# Altium integrated library WE-HCI_rev15b.intlib: 126 symbols (part 1 of 2)
Pins are listed as number, name and electrical type; pins without a type are passive.

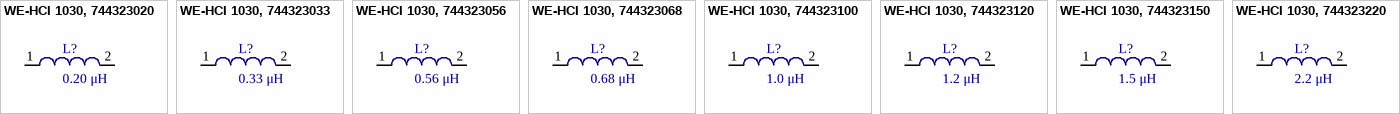
[diagram p0: symbols WE-HCI 1030, 744323020 to WE-HCI 1030, 744323220]

## WE-HCI 1030, 744323020
designator L?, comment 0.20 μH
WE-HCI SMD Flat Wire High Current Inductor, Inductance = 0.20 μH; partNo: 744323020; Manufacturer: Wurth Elektronik; Inductance: 0.20 μH; ComponentLink1Description: Manufacturer; ComponentLink1URL: http://www.we-online.de; Created by: Baojun Chen; Created Date: Nov.2015; ComponentLink2Description: Datasheet; ComponentLink2URL: http://katalog.we-online.de/pbs/datasheet/744323020.pdf
footprint WE-HCI 1030
pins: 1, 2

## WE-HCI 1030, 744323033
designator L?, comment 0.33 μH
WE-HCI SMD Flat Wire High Current Inductor, Inductance = 0.33 μH; partNo: 744323033; Manufacturer: Wurth Elektronik; Inductance: 0.33 μH; ComponentLink1Description: Manufacturer; ComponentLink1URL: http://www.we-online.de; Created by: Baojun Chen; Created Date: Nov.2015; ComponentLink2Description: Datasheet; ComponentLink2URL: http://katalog.we-online.de/pbs/datasheet/744323033.pdf
footprint WE-HCI 1030
pins: 1, 2

## WE-HCI 1030, 744323056
designator L?, comment 0.56 μH
WE-HCI SMD Flat Wire High Current Inductor, Inductance = 0.56 μH; partNo: 744323056; Manufacturer: Wurth Elektronik; Inductance: 0.56 μH; ComponentLink1Description: Manufacturer; ComponentLink1URL: http://www.we-online.de; Created by: Baojun Chen; Created Date: Nov.2015; ComponentLink2Description: Datasheet; ComponentLink2URL: http://katalog.we-online.de/pbs/datasheet/744323056.pdf
footprint WE-HCI 1030
pins: 1, 2

## WE-HCI 1030, 744323068
designator L?, comment 0.68 μH
WE-HCI SMD Flat Wire High Current Inductor, Inductance = 0.68 μH; partNo: 744323068; Manufacturer: Wurth Elektronik; Inductance: 0.68 μH; ComponentLink1Description: Manufacturer; ComponentLink1URL: http://www.we-online.de; Created by: Baojun Chen; Created Date: Nov.2015; ComponentLink2Description: Datasheet; ComponentLink2URL: http://katalog.we-online.de/pbs/datasheet/744323068.pdf
footprint WE-HCI 1030
pins: 1, 2

## WE-HCI 1030, 744323100
designator L?, comment 1.0 μH
WE-HCI SMD Flat Wire High Current Inductor, Inductance = 1.0 μH; partNo: 744323100; Manufacturer: Wurth Elektronik; Inductance: 1.0 μH; ComponentLink1Description: Manufacturer; ComponentLink1URL: http://www.we-online.de; Created by: Baojun Chen; Created Date: Nov.2015; ComponentLink2Description: Datasheet; ComponentLink2URL: http://katalog.we-online.de/pbs/datasheet/744323100.pdf
footprint WE-HCI 1030
pins: 1, 2

## WE-HCI 1030, 744323120
designator L?, comment 1.2 μH
WE-HCI SMD Flat Wire High Current Inductor, Inductance = 1.2 μH; partNo: 744323120; Manufacturer: Wurth Elektronik; Inductance: 1.2 μH; ComponentLink1Description: Manufacturer; ComponentLink1URL: http://www.we-online.de; Created by: Baojun Chen; Created Date: Nov.2015; ComponentLink2Description: Datasheet; ComponentLink2URL: http://katalog.we-online.de/pbs/datasheet/744323120.pdf
footprint WE-HCI 1030
pins: 1, 2

## WE-HCI 1030, 744323150
designator L?, comment 1.5 μH
WE-HCI SMD Flat Wire High Current Inductor, Inductance = 1.5 μH; partNo: 744323150; Manufacturer: Wurth Elektronik; Inductance: 1.5 μH; ComponentLink1Description: Manufacturer; ComponentLink1URL: http://www.we-online.de; Created by: Baojun Chen; Created Date: Nov.2015; ComponentLink2Description: Datasheet; ComponentLink2URL: http://katalog.we-online.de/pbs/datasheet/744323150.pdf
footprint WE-HCI 1030
pins: 1, 2

## WE-HCI 1030, 744323220
designator L?, comment 2.2 μH
WE-HCI SMD Flat Wire High Current Inductor, Inductance = 2.2 μH; partNo: 744323220; Manufacturer: Wurth Elektronik; Inductance: 2.2 μH; ComponentLink1Description: Manufacturer; ComponentLink1URL: http://www.we-online.de; Created by: Baojun Chen; Created Date: Nov.2015; ComponentLink2Description: Datasheet; ComponentLink2URL: http://katalog.we-online.de/pbs/datasheet/744323220.pdf
footprint WE-HCI 1030
pins: 1, 2


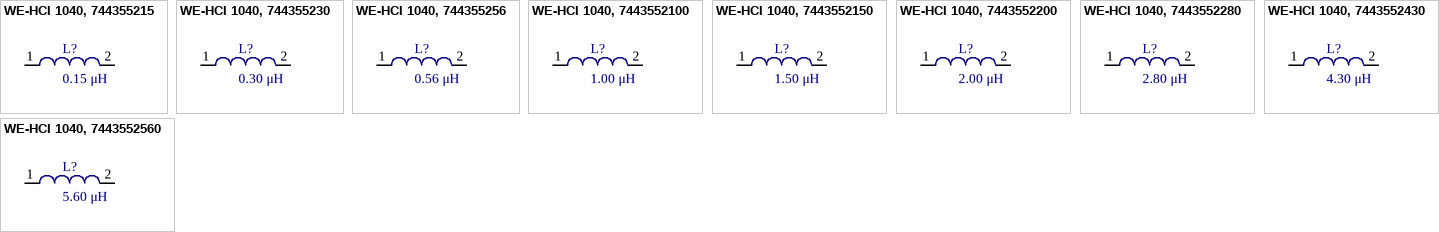
[diagram p1: symbols WE-HCI 1040, 744355215 to WE-HCI 1040, 7443552560]

## WE-HCI 1040, 744355215
designator L?, comment 0.15 μH
WE-HCI SMD Flat Wire High Current Inductor, Inductance = 0.15 μH; partNo: 744355215; Manufacturer: Wurth Elektronik; Inductance: 0.15 μH; ComponentLink1Description: Manufacturer; ComponentLink1URL: http://www.we-online.de; Created by: Baojun Chen; Created Date: Nov.2015; ComponentLink2Description: Datasheet; ComponentLink2URL: http://katalog.we-online.de/pbs/datasheet/744355215.pdf
footprint WE-HCI 1040
pins: 1, 2

## WE-HCI 1040, 744355230
designator L?, comment 0.30 μH
WE-HCI SMD Flat Wire High Current Inductor, Inductance = 0.30 μH; partNo: 744355230; Manufacturer: Wurth Elektronik; Inductance: 0.30 μH; ComponentLink1Description: Manufacturer; ComponentLink1URL: http://www.we-online.de; Created by: Baojun Chen; Created Date: Nov.2015; ComponentLink2Description: Datasheet; ComponentLink2URL: http://katalog.we-online.de/pbs/datasheet/744355230.pdf
footprint WE-HCI 1040
pins: 1, 2

## WE-HCI 1040, 744355256
designator L?, comment 0.56 μH
WE-HCI SMD Flat Wire High Current Inductor, Inductance = 0.56 μH; partNo: 744355256; Manufacturer: Wurth Elektronik; Inductance: 0.56 μH; ComponentLink1Description: Manufacturer; ComponentLink1URL: http://www.we-online.de; Created by: Baojun Chen; Created Date: Nov.2015; ComponentLink2Description: Datasheet; ComponentLink2URL: http://katalog.we-online.de/pbs/datasheet/744355256.pdf
footprint WE-HCI 1040
pins: 1, 2

## WE-HCI 1040, 7443552100
designator L?, comment 1.00 μH
WE-HCI SMD Flat Wire High Current Inductor, Inductance = 1.00 μH; partNo: 7443552100; Manufacturer: Wurth Elektronik; Inductance: 1.00 μH; ComponentLink1Description: Manufacturer; ComponentLink1URL: http://www.we-online.de; Created by: Baojun Chen; Created Date: Nov.2015; ComponentLink2Description: Datasheet; ComponentLink2URL: http://katalog.we-online.de/pbs/datasheet/7443552100.pdf
footprint WE-HCI 1040
pins: 1, 2

## WE-HCI 1040, 7443552150
designator L?, comment 1.50 μH
WE-HCI SMD Flat Wire High Current Inductor, Inductance = 1.50 μH; partNo: 7443552150; Manufacturer: Wurth Elektronik; Inductance: 1.50 μH; ComponentLink1Description: Manufacturer; ComponentLink1URL: http://www.we-online.de; Created by: Baojun Chen; Created Date: Nov.2015; ComponentLink2Description: Datasheet; ComponentLink2URL: http://katalog.we-online.de/pbs/datasheet/7443552150.pdf
footprint WE-HCI 1040
pins: 1, 2

## WE-HCI 1040, 7443552200
designator L?, comment 2.00 μH
WE-HCI SMD Flat Wire High Current Inductor, Inductance = 2.00 μH; partNo: 7443552200; Manufacturer: Wurth Elektronik; Inductance: 2.00 μH; ComponentLink1Description: Manufacturer; ComponentLink1URL: http://www.we-online.de; Created by: Baojun Chen; Created Date: Nov.2015; ComponentLink2Description: Datasheet; ComponentLink2URL: http://katalog.we-online.de/pbs/datasheet/7443552200.pdf
footprint WE-HCI 1040
pins: 1, 2

## WE-HCI 1040, 7443552280
designator L?, comment 2.80 μH
WE-HCI SMD Flat Wire High Current Inductor, Inductance = 2.80 μH; partNo: 7443552280; Manufacturer: Wurth Elektronik; Inductance: 2.80 μH; ComponentLink1Description: Manufacturer; ComponentLink1URL: http://www.we-online.de; Created by: Baojun Chen; Created Date: Nov.2015; ComponentLink2Description: Datasheet; ComponentLink2URL: http://katalog.we-online.de/pbs/datasheet/7443552280.pdf
footprint WE-HCI 1040
pins: 1, 2

## WE-HCI 1040, 7443552430
designator L?, comment 4.30 μH
WE-HCI SMD Flat Wire High Current Inductor, Inductance = 4.30 μH; partNo: 7443552430; Manufacturer: Wurth Elektronik; Inductance: 4.30 μH; ComponentLink1Description: Manufacturer; ComponentLink1URL: http://www.we-online.de; Created by: Baojun Chen; Created Date: Nov.2015; ComponentLink2Description: Datasheet; ComponentLink2URL: http://katalog.we-online.de/pbs/datasheet/7443552430.pdf
footprint WE-HCI 1040
pins: 1, 2

## WE-HCI 1040, 7443552560
designator L?, comment 5.60 μH
WE-HCI SMD Flat Wire High Current Inductor, Inductance = 5.60 μH; partNo: 7443552560; Manufacturer: Wurth Elektronik; Inductance: 5.60 μH; ComponentLink1Description: Manufacturer; ComponentLink1URL: http://www.we-online.de; Created by: Baojun Chen; Created Date: Nov.2015; ComponentLink2Description: Datasheet; ComponentLink2URL: http://katalog.we-online.de/pbs/datasheet/7443552560.pdf
footprint WE-HCI 1040
pins: 1, 2


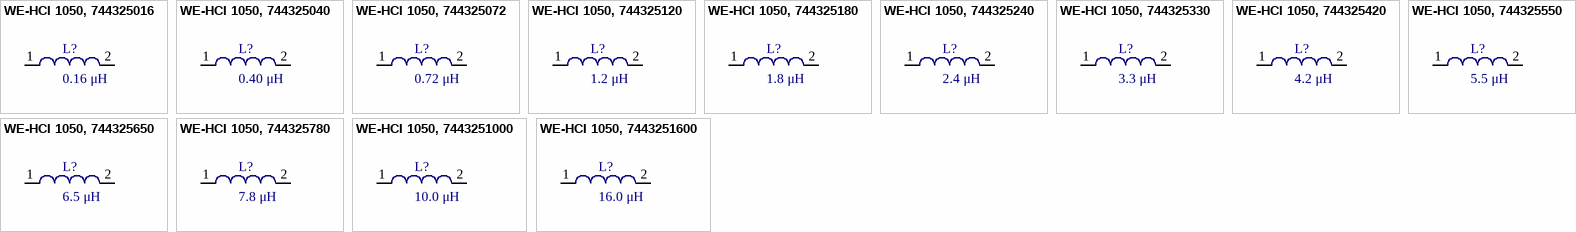
[diagram p2: symbols WE-HCI 1050, 744325016 to WE-HCI 1050, 7443251600]

## WE-HCI 1050, 744325016
designator L?, comment 0.16 μH
WE-HCI SMD Flat Wire High Current Inductor, Inductance = 0.16 μH; partNo: 744325016; Manufacturer: Wurth Elektronik; Inductance: 0.16 μH; ComponentLink1Description: Manufacturer; ComponentLink1URL: http://www.we-online.de; Created by: Baojun Chen; Created Date: Nov.2015; ComponentLink2Description: Datasheet; ComponentLink2URL: http://katalog.we-online.de/pbs/datasheet/744325016.pdf
footprint WE-HCI 1050
pins: 1, 2

## WE-HCI 1050, 744325040
designator L?, comment 0.40 μH
WE-HCI SMD Flat Wire High Current Inductor, Inductance = 0.40 μH; partNo: 744325040; Manufacturer: Wurth Elektronik; Inductance: 0.40 μH; ComponentLink1Description: Manufacturer; ComponentLink1URL: http://www.we-online.de; Created by: Baojun Chen; Created Date: Nov.2015; ComponentLink2Description: Datasheet; ComponentLink2URL: http://katalog.we-online.de/pbs/datasheet/744325040.pdf
footprint WE-HCI 5040
pins: 1, 2

## WE-HCI 1050, 744325072
designator L?, comment 0.72 μH
WE-HCI SMD Flat Wire High Current Inductor, Inductance = 0.72 μH; partNo: 744325072; Manufacturer: Wurth Elektronik; Inductance: 0.72 μH; ComponentLink1Description: Manufacturer; ComponentLink1URL: http://www.we-online.de; Created by: Baojun Chen; Created Date: Nov.2015; ComponentLink2Description: Datasheet; ComponentLink2URL: http://katalog.we-online.de/pbs/datasheet/744325072.pdf
footprint WE-HCI 1050
pins: 1, 2

## WE-HCI 1050, 744325120
designator L?, comment 1.2 μH
WE-HCI SMD Flat Wire High Current Inductor, Inductance = 1.2 μH; partNo: 744325120; Manufacturer: Wurth Elektronik; Inductance: 1.2 μH; ComponentLink1Description: Manufacturer; ComponentLink1URL: http://www.we-online.de; Created by: Baojun Chen; Created Date: Nov.2015; ComponentLink2Description: Datasheet; ComponentLink2URL: http://katalog.we-online.de/pbs/datasheet/744325120.pdf
footprint WE-HCI 1050
pins: 1, 2

## WE-HCI 1050, 744325180
designator L?, comment 1.8 μH
WE-HCI SMD Flat Wire High Current Inductor, Inductance = 1.8 μH; partNo: 744325180; Manufacturer: Wurth Elektronik; Inductance: 1.8 μH; ComponentLink1Description: Manufacturer; ComponentLink1URL: http://www.we-online.de; Created by: Baojun Chen; Created Date: Nov.2015; ComponentLink2Description: Datasheet; ComponentLink2URL: http://katalog.we-online.de/pbs/datasheet/744325180.pdf
footprint WE-HCI 1050
pins: 1, 2

## WE-HCI 1050, 744325240
designator L?, comment 2.4 μH
WE-HCI SMD Flat Wire High Current Inductor, Inductance = 2.4 μH; partNo: 744325240; Manufacturer: Wurth Elektronik; Inductance: 2.4 μH; ComponentLink1Description: Manufacturer; ComponentLink1URL: http://www.we-online.de; Created by: Baojun Chen; Created Date: Nov.2015; ComponentLink2Description: Datasheet; ComponentLink2URL: http://katalog.we-online.de/pbs/datasheet/744325240.pdf
footprint WE-HCI 1050
pins: 1, 2

## WE-HCI 1050, 744325330
designator L?, comment 3.3 μH
WE-HCI SMD Flat Wire High Current Inductor, Inductance = 3.3 μH; partNo: 744325330; Manufacturer: Wurth Elektronik; Inductance: 3.3 μH; ComponentLink1Description: Manufacturer; ComponentLink1URL: http://www.we-online.de; Created by: Baojun Chen; Created Date: Nov.2015; ComponentLink2Description: Datasheet; ComponentLink2URL: http://katalog.we-online.de/pbs/datasheet/744325330.pdf
footprint WE-HCI 1050
pins: 1, 2

## WE-HCI 1050, 744325420
designator L?, comment 4.2 μH
WE-HCI SMD Flat Wire High Current Inductor, Inductance = 4.2 μH; partNo: 744325420; Manufacturer: Wurth Elektronik; Inductance: 4.2 μH; ComponentLink1Description: Manufacturer; ComponentLink1URL: http://www.we-online.de; Created by: Baojun Chen; Created Date: Nov.2015; ComponentLink2Description: Datasheet; ComponentLink2URL: http://katalog.we-online.de/pbs/datasheet/744325420.pdf
footprint WE-HCI 1050
pins: 1, 2

## WE-HCI 1050, 744325550
designator L?, comment 5.5 μH
WE-HCI SMD Flat Wire High Current Inductor, Inductance = 5.5 μH; partNo: 744325550; Manufacturer: Wurth Elektronik; Inductance: 5.5 μH; ComponentLink1Description: Manufacturer; ComponentLink1URL: http://www.we-online.de; Created by: Baojun Chen; Created Date: Nov.2015; ComponentLink2Description: Datasheet; ComponentLink2URL: http://katalog.we-online.de/pbs/datasheet/744325550.pdf
footprint WE-HCI 1050
pins: 1, 2

## WE-HCI 1050, 744325650
designator L?, comment 6.5 μH
WE-HCI SMD Flat Wire High Current Inductor, Inductance = 6.5 μH; partNo: 744325650; Manufacturer: Wurth Elektronik; Inductance: 6.5 μH; ComponentLink1Description: Manufacturer; ComponentLink1URL: http://www.we-online.de; Created by: Baojun Chen; Created Date: Nov.2015; ComponentLink2Description: Datasheet; ComponentLink2URL: http://katalog.we-online.de/pbs/datasheet/744325650.pdf
footprint WE-HCI 1050
pins: 1, 2

## WE-HCI 1050, 744325780
designator L?, comment 7.8 μH
WE-HCI SMD Flat Wire High Current Inductor, Inductance = 7.8 μH; partNo: 744325780; Manufacturer: Wurth Elektronik; Inductance: 7.8 μH; ComponentLink1Description: Manufacturer; ComponentLink1URL: http://www.we-online.de; Created by: Baojun Chen; Created Date: Nov.2015; ComponentLink2Description: Datasheet; ComponentLink2URL: http://katalog.we-online.de/pbs/datasheet/744325780.pdf
footprint WE-HCI 1050
pins: 1, 2

## WE-HCI 1050, 7443251000
designator L?, comment 10.0 μH
WE-HCI SMD Flat Wire High Current Inductor, Inductance = 10.0 μH; partNo: 7443251000; Manufacturer: Wurth Elektronik; Inductance: 10.0 μH; ComponentLink1Description: Manufacturer; ComponentLink1URL: http://www.we-online.de; Created by: Baojun Chen; Created Date: Nov.2015; ComponentLink2Description: Datasheet; ComponentLink2URL: http://katalog.we-online.de/pbs/datasheet/7443251000.pdf
footprint WE-HCI 1050
pins: 1, 2

## WE-HCI 1050, 7443251600
designator L?, comment 16.0 μH
WE-HCI SMD Flat Wire High Current Inductor, Inductance = 16.0 μH; partNo: 7443251600; Manufacturer: Wurth Elektronik; Inductance: 16.0 μH; ComponentLink1Description: Manufacturer; ComponentLink1URL: http://www.we-online.de; Created by: Baojun Chen; Created Date: Nov.2015; ComponentLink2Description: Datasheet; ComponentLink2URL: http://katalog.we-online.de/pbs/datasheet/7443251600.pdf
footprint WE-HCI 1050
pins: 1, 2


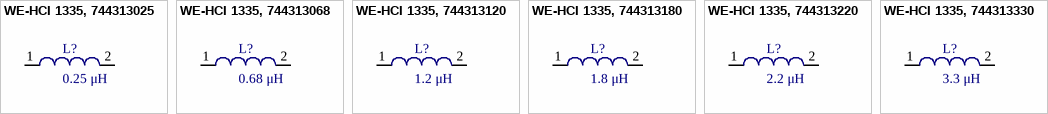
[diagram p3: symbols WE-HCI 1335, 744313025 to WE-HCI 1335, 744313330]

## WE-HCI 1335, 744313025
designator L?, comment 0.25 μH
WE-HCI SMD Flat Wire High Current Inductor, Inductance = 0.25 μH; partNo: 744313025; Manufacturer: Wurth Elektronik; Inductance: 0.25 μH; ComponentLink1Description: Manufacturer; ComponentLink1URL: http://www.we-online.de; Created by: Baojun Chen; Created Date: Nov.2015; ComponentLink2Description: Datasheet; ComponentLink2URL: http://katalog.we-online.de/pbs/datasheet/744313025.pdf
footprint WE-HCI 1335
pins: 1, 2

## WE-HCI 1335, 744313068
designator L?, comment 0.68 μH
WE-HCI SMD Flat Wire High Current Inductor, Inductance = 0.68 μH; partNo: 744313068; Manufacturer: Wurth Elektronik; Inductance: 0.68 μH; ComponentLink1Description: Manufacturer; ComponentLink1URL: http://www.we-online.de; Created by: Baojun Chen; Created Date: Nov.2015; ComponentLink2Description: Datasheet; ComponentLink2URL: http://katalog.we-online.de/pbs/datasheet/744313068.pdf
footprint WE-HCI 1335
pins: 1, 2

## WE-HCI 1335, 744313120
designator L?, comment 1.2 μH
WE-HCI SMD Flat Wire High Current Inductor, Inductance = 1.2 μH; partNo: 744313120; Manufacturer: Wurth Elektronik; Inductance: 1.2 μH; ComponentLink1Description: Manufacturer; ComponentLink1URL: http://www.we-online.de; Created by: Baojun Chen; Created Date: Nov.2015; ComponentLink2Description: Datasheet; ComponentLink2URL: http://katalog.we-online.de/pbs/datasheet/744313120.pdf
footprint WE-HCI 1335
pins: 1, 2

## WE-HCI 1335, 744313180
designator L?, comment 1.8 μH
WE-HCI SMD Flat Wire High Current Inductor, Inductance = 1.8 μH; partNo: 744313180; Manufacturer: Wurth Elektronik; Inductance: 1.8 μH; ComponentLink1Description: Manufacturer; ComponentLink1URL: http://www.we-online.de; Created by: Baojun Chen; Created Date: Nov.2015; ComponentLink2Description: Datasheet; ComponentLink2URL: http://katalog.we-online.de/pbs/datasheet/744313180.pdf
footprint WE-HCI 1335
pins: 1, 2

## WE-HCI 1335, 744313220
designator L?, comment 2.2 μH
WE-HCI SMD Flat Wire High Current Inductor, Inductance = 2.2 μH; partNo: 744313220; Manufacturer: Wurth Elektronik; Inductance: 2.2 μH; ComponentLink1Description: Manufacturer; ComponentLink1URL: http://www.we-online.de; Created by: Baojun Chen; Created Date: Nov.2015; ComponentLink2Description: Datasheet; ComponentLink2URL: http://katalog.we-online.de/pbs/datasheet/744313220.pdf
footprint WE-HCI 1335
pins: 1, 2

## WE-HCI 1335, 744313330
designator L?, comment 3.3 μH
WE-HCI SMD Flat Wire High Current Inductor, Inductance = 3.3 μH; partNo: 744313330; Manufacturer: Wurth Elektronik; Inductance: 3.3 μH; ComponentLink1Description: Manufacturer; ComponentLink1URL: http://www.we-online.de; Created by: Baojun Chen; Created Date: Nov.2015; ComponentLink2Description: Datasheet; ComponentLink2URL: http://katalog.we-online.de/pbs/datasheet/744313330.pdf
footprint WE-HCI 1335 (SMD Inductor, 2-Leads, Body 12,9x12,8mm)
pins: 1, 2


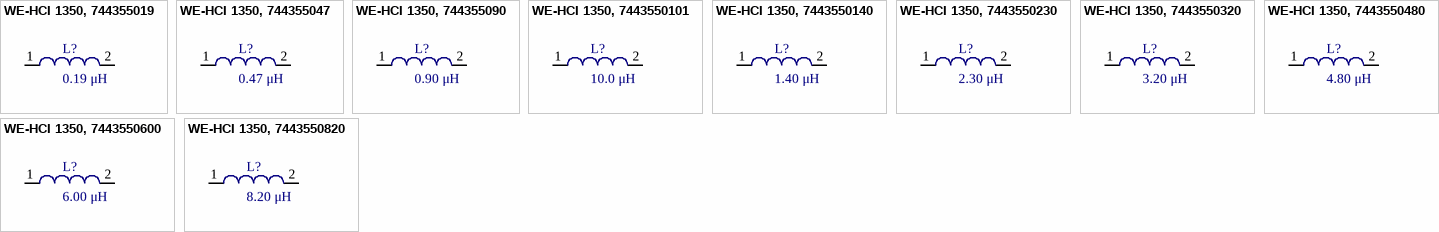
[diagram p4: symbols WE-HCI 1350, 744355019 to WE-HCI 1350, 7443550820]

## WE-HCI 1350, 744355019
designator L?, comment 0.19 μH
WE-HCI SMD Flat Wire High Current Inductor, Inductance = 0.19 μH; partNo: 744355019; Manufacturer: Wurth Elektronik; Inductance: 0.19 μH; ComponentLink1Description: Manufacturer; ComponentLink1URL: http://www.we-online.de; Created by: Baojun Chen; Created Date: Nov.2015; ComponentLink2Description: Datasheet; ComponentLink2URL: http://katalog.we-online.de/pbs/datasheet/744355019.pdf
footprint WE-HCI 1350
pins: 1, 2

## WE-HCI 1350, 744355047
designator L?, comment 0.47 μH
WE-HCI SMD Flat Wire High Current Inductor, Inductance = 0.47 μH; partNo: 744355047; Manufacturer: Wurth Elektronik; Inductance: 0.47 μH; ComponentLink1Description: Manufacturer; ComponentLink1URL: http://www.we-online.de; Created by: Baojun Chen; Created Date: Nov.2015; ComponentLink2Description: Datasheet; ComponentLink2URL: http://katalog.we-online.de/pbs/datasheet/744355047.pdf
footprint WE-HCI 1350
pins: 1, 2

## WE-HCI 1350, 744355090
designator L?, comment 0.90 μH
WE-HCI SMD Flat Wire High Current Inductor, Inductance = 0.90 μH; partNo: 744355090; Manufacturer: Wurth Elektronik; Inductance: 0.90 μH; ComponentLink1Description: Manufacturer; ComponentLink1URL: http://www.we-online.de; Created by: Baojun Chen; Created Date: Nov.2015; ComponentLink2Description: Datasheet; ComponentLink2URL: http://katalog.we-online.de/pbs/datasheet/744355090.pdf
footprint WE-HCI 1350
pins: 1, 2

## WE-HCI 1350, 7443550101
designator L?, comment 10.0 μH
WE-HCI SMD Flat Wire High Current Inductor, Inductance = 10.0 μH; partNo: 7443550101; Manufacturer: Wurth Elektronik; Inductance: 10.0 μH; ComponentLink1Description: Manufacturer; ComponentLink1URL: http://www.we-online.de; Created by: Baojun Chen; Created Date: Nov.2015; ComponentLink2Description: Datasheet; ComponentLink2URL: http://katalog.we-online.de/pbs/datasheet/7443550101.pdf
footprint WE-HCI 1350
pins: 1, 2

## WE-HCI 1350, 7443550140
designator L?, comment 1.40 μH
WE-HCI SMD Flat Wire High Current Inductor, Inductance = 1.40 μH; partNo: 7443550140; Manufacturer: Wurth Elektronik; Inductance: 1.40 μH; ComponentLink1Description: Manufacturer; ComponentLink1URL: http://www.we-online.de; Created by: Baojun Chen; Created Date: Nov.2015; ComponentLink2Description: Datasheet; ComponentLink2URL: http://katalog.we-online.de/pbs/datasheet/7443550140.pdf
footprint WE-HCI 1350
pins: 1, 2

## WE-HCI 1350, 7443550230
designator L?, comment 2.30 μH
WE-HCI SMD Flat Wire High Current Inductor, Inductance = 2.30 μH; partNo: 7443550230; Manufacturer: Wurth Elektronik; Inductance: 2.30 μH; ComponentLink1Description: Manufacturer; ComponentLink1URL: http://www.we-online.de; Created by: Baojun Chen; Created Date: Nov.2015; ComponentLink2Description: Datasheet; ComponentLink2URL: http://katalog.we-online.de/pbs/datasheet/7443550230.pdf
footprint WE-HCI 1350
pins: 1, 2

## WE-HCI 1350, 7443550320
designator L?, comment 3.20 μH
WE-HCI SMD Flat Wire High Current Inductor, Inductance = 3.20 μH; partNo: 7443550320; Manufacturer: Wurth Elektronik; Inductance: 3.20 μH; ComponentLink1Description: Manufacturer; ComponentLink1URL: http://www.we-online.de; Created by: Baojun Chen; Created Date: Nov.2015; ComponentLink2Description: Datasheet; ComponentLink2URL: http://katalog.we-online.de/pbs/datasheet/7443550320.pdf
footprint WE-HCI 1350
pins: 1, 2

## WE-HCI 1350, 7443550480
designator L?, comment 4.80 μH
WE-HCI SMD Flat Wire High Current Inductor, Inductance = 4.80 μH; partNo: 7443550480; Manufacturer: Wurth Elektronik; Inductance: 4.80 μH; ComponentLink1Description: Manufacturer; ComponentLink1URL: http://www.we-online.de; Created by: Baojun Chen; Created Date: Nov.2015; ComponentLink2Description: Datasheet; ComponentLink2URL: http://katalog.we-online.de/pbs/datasheet/7443550480.pdf
footprint WE-HCI 1350
pins: 1, 2

## WE-HCI 1350, 7443550600
designator L?, comment 6.00 μH
WE-HCI SMD Flat Wire High Current Inductor, Inductance = 6.00 μH; partNo: 7443550600; Manufacturer: Wurth Elektronik; Inductance: 6.00 μH; ComponentLink1Description: Manufacturer; ComponentLink1URL: http://www.we-online.de; Created by: Baojun Chen; Created Date: Nov.2015; ComponentLink2Description: Datasheet; ComponentLink2URL: http://katalog.we-online.de/pbs/datasheet/7443550600.pdf
footprint WE-HCI 1350
pins: 1, 2

## WE-HCI 1350, 7443550820
designator L?, comment 8.20 μH
WE-HCI SMD Flat Wire High Current Inductor, Inductance = 8.20 μH; partNo: 7443550820; Manufacturer: Wurth Elektronik; Inductance: 8.20 μH; ComponentLink1Description: Manufacturer; ComponentLink1URL: http://www.we-online.de; Created by: Baojun Chen; Created Date: Nov.2015; ComponentLink2Description: Datasheet; ComponentLink2URL: http://katalog.we-online.de/pbs/datasheet/7443550820.pdf
footprint WE-HCI 1350
pins: 1, 2


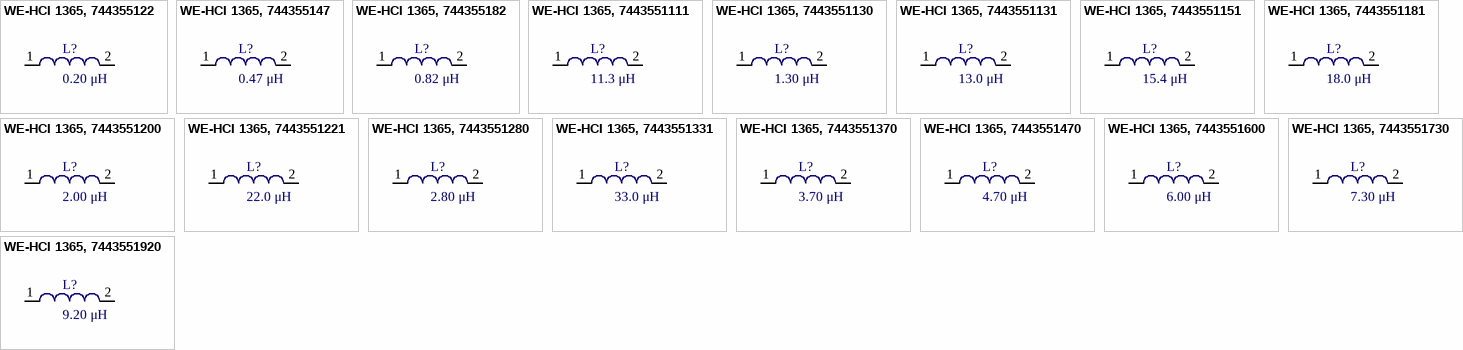
[diagram p5: symbols WE-HCI 1365, 744355122 to WE-HCI 1365, 7443551920]

## WE-HCI 1365, 744355122
designator L?, comment 0.20 μH
WE-HCI SMD Flat Wire High Current Inductor, Inductance = 0.20 μH; partNo: 744355122; Manufacturer: Wurth Elektronik; Inductance: 0.20 μH; ComponentLink1Description: Manufacturer; ComponentLink1URL: http://www.we-online.de; Created by: Baojun Chen; Created Date: Nov.2015; ComponentLink2Description: Datasheet; ComponentLink2URL: http://katalog.we-online.de/pbs/datasheet/744355122.pdf
footprint WE-HCI 1365
pins: 1, 2

## WE-HCI 1365, 744355147
designator L?, comment 0.47 μH
WE-HCI SMD Flat Wire High Current Inductor, Inductance = 0.47 μH; partNo: 744355147; Manufacturer: Wurth Elektronik; Inductance: 0.47 μH; ComponentLink1Description: Manufacturer; ComponentLink1URL: http://www.we-online.de; Created by: Baojun Chen; Created Date: Nov.2015; ComponentLink2Description: Datasheet; ComponentLink2URL: http://katalog.we-online.de/pbs/datasheet/744355147.pdf
footprint WE-HCI 1365
pins: 1, 2

## WE-HCI 1365, 744355182
designator L?, comment 0.82 μH
WE-HCI SMD Flat Wire High Current Inductor, Inductance = 0.82 μH; partNo: 744355182; Manufacturer: Wurth Elektronik; Inductance: 0.82 μH; ComponentLink1Description: Manufacturer; ComponentLink1URL: http://www.we-online.de; Created by: Baojun Chen; Created Date: Nov.2015; ComponentLink2Description: Datasheet; ComponentLink2URL: http://katalog.we-online.de/pbs/datasheet/744355182.pdf
footprint WE-HCI 1365
pins: 1, 2

## WE-HCI 1365, 7443551111
designator L?, comment 11.3 μH
WE-HCI SMD Flat Wire High Current Inductor, Inductance = 11.3 μH; partNo: 7443551111; Manufacturer: Wurth Elektronik; Inductance: 11.3 μH; ComponentLink1Description: Manufacturer; ComponentLink1URL: http://www.we-online.de; Created by: Baojun Chen; Created Date: Nov.2015; ComponentLink2Description: Datasheet; ComponentLink2URL: http://katalog.we-online.de/pbs/datasheet/7443551111.pdf
footprint WE-HCI 1365
pins: 1, 2

## WE-HCI 1365, 7443551130
designator L?, comment 1.30 μH
WE-HCI SMD Flat Wire High Current Inductor, Inductance = 1.30 μH; partNo: 7443551130; Manufacturer: Wurth Elektronik; Inductance: 1.30 μH; ComponentLink1Description: Manufacturer; ComponentLink1URL: http://www.we-online.de; Created by: Baojun Chen; Created Date: Nov.2015; ComponentLink2Description: Datasheet; ComponentLink2URL: http://katalog.we-online.de/pbs/datasheet/7443551130.pdf
footprint WE-HCI 1365
pins: 1, 2

## WE-HCI 1365, 7443551131
designator L?, comment 13.0 μH
WE-HCI SMD Flat Wire High Current Inductor, Inductance = 13.0 μH; partNo: 7443551131; Manufacturer: Wurth Elektronik; Inductance: 13.0 μH; ComponentLink1Description: Manufacturer; ComponentLink1URL: http://www.we-online.de; Created by: Baojun Chen; Created Date: Nov.2015; ComponentLink2Description: Datasheet; ComponentLink2URL: http://katalog.we-online.de/pbs/datasheet/7443551131.pdf
footprint WE-HCI 1365
pins: 1, 2

## WE-HCI 1365, 7443551151
designator L?, comment 15.4 μH
WE-HCI SMD Flat Wire High Current Inductor, Inductance = 15.4 μH; partNo: 7443551151; Manufacturer: Wurth Elektronik; Inductance: 15.4 μH; ComponentLink1Description: Manufacturer; ComponentLink1URL: http://www.we-online.de; Created by: Baojun Chen; Created Date: Nov.2015; ComponentLink2Description: Datasheet; ComponentLink2URL: http://katalog.we-online.de/pbs/datasheet/7443551151.pdf
footprint WE-HCI 1365
pins: 1, 2

## WE-HCI 1365, 7443551181
designator L?, comment 18.0 μH
WE-HCI SMD Flat Wire High Current Inductor, Inductance = 18.0 μH; partNo: 7443551181; Manufacturer: Wurth Elektronik; Inductance: 18.0 μH; ComponentLink1Description: Manufacturer; ComponentLink1URL: http://www.we-online.de; Created by: Baojun Chen; Created Date: Nov.2015; ComponentLink2Description: Datasheet; ComponentLink2URL: http://katalog.we-online.de/pbs/datasheet/7443551181.pdf
footprint WE-HCI 1365
pins: 1, 2

## WE-HCI 1365, 7443551200
designator L?, comment 2.00 μH
WE-HCI SMD Flat Wire High Current Inductor, Inductance = 2.00 μH; partNo: 7443551200; Manufacturer: Wurth Elektronik; Inductance: 2.00 μH; ComponentLink1Description: Manufacturer; ComponentLink1URL: http://www.we-online.de; Created by: Baojun Chen; Created Date: Nov.2015; ComponentLink2Description: Datasheet; ComponentLink2URL: http://katalog.we-online.de/pbs/datasheet/7443551200.pdf
footprint WE-HCI 1365
pins: 1, 2

## WE-HCI 1365, 7443551221
designator L?, comment 22.0 μH
WE-HCI SMD Flat Wire High Current Inductor, Inductance = 22.0 μH; partNo: 7443551221; Manufacturer: Wurth Elektronik; Inductance: 22.0 μH; ComponentLink1Description: Manufacturer; ComponentLink1URL: http://www.we-online.de; Created by: Baojun Chen; Created Date: Nov.2015; ComponentLink2Description: Datasheet; ComponentLink2URL: http://katalog.we-online.de/pbs/datasheet/7443551221.pdf
footprint WE-HCI 1365
pins: 1, 2

## WE-HCI 1365, 7443551280
designator L?, comment 2.80 μH
WE-HCI SMD Flat Wire High Current Inductor, Inductance = 2.80 μH; partNo: 7443551280; Manufacturer: Wurth Elektronik; Inductance: 2.80 μH; ComponentLink1Description: Manufacturer; ComponentLink1URL: http://www.we-online.de; Created by: Baojun Chen; Created Date: Nov.2015; ComponentLink2Description: Datasheet; ComponentLink2URL: http://katalog.we-online.de/pbs/datasheet/7443551280.pdf
footprint WE-HCI 1365
pins: 1, 2

## WE-HCI 1365, 7443551331
designator L?, comment 33.0 μH
WE-HCI SMD Flat Wire High Current Inductor, Inductance = 33.0 μH; partNo: 7443551331; Manufacturer: Wurth Elektronik; Inductance: 33.0 μH; ComponentLink1Description: Manufacturer; ComponentLink1URL: http://www.we-online.de; Created by: Baojun Chen; Created Date: Nov.2015; ComponentLink2Description: Datasheet; ComponentLink2URL: http://katalog.we-online.de/pbs/datasheet/7443551331.pdf
footprint WE-HCI 1365
pins: 1, 2

## WE-HCI 1365, 7443551370
designator L?, comment 3.70 μH
WE-HCI SMD Flat Wire High Current Inductor, Inductance = 3.70 μH; partNo: 7443551370; Manufacturer: Wurth Elektronik; Inductance: 3.70 μH; ComponentLink1Description: Manufacturer; ComponentLink1URL: http://www.we-online.de; Created by: Baojun Chen; Created Date: Nov.2015; ComponentLink2Description: Datasheet; ComponentLink2URL: http://katalog.we-online.de/pbs/datasheet/7443551370.pdf
footprint WE-HCI 1365
pins: 1, 2

## WE-HCI 1365, 7443551470
designator L?, comment 4.70 μH
WE-HCI SMD Flat Wire High Current Inductor, Inductance = 4.70 μH; partNo: 7443551470; Manufacturer: Wurth Elektronik; Inductance: 4.70 μH; ComponentLink1Description: Manufacturer; ComponentLink1URL: http://www.we-online.de; Created by: Baojun Chen; Created Date: Nov.2015; ComponentLink2Description: Datasheet; ComponentLink2URL: http://katalog.we-online.de/pbs/datasheet/7443551470.pdf
footprint WE-HCI 1365
pins: 1, 2

## WE-HCI 1365, 7443551600
designator L?, comment 6.00 μH
WE-HCI SMD Flat Wire High Current Inductor, Inductance = 6.00 μH; partNo: 7443551600; Manufacturer: Wurth Elektronik; Inductance: 6.00 μH; ComponentLink1Description: Manufacturer; ComponentLink1URL: http://www.we-online.de; Created by: Baojun Chen; Created Date: Nov.2015; ComponentLink2Description: Datasheet; ComponentLink2URL: http://katalog.we-online.de/pbs/datasheet/7443551600.pdf
footprint WE-HCI 1365
pins: 1, 2

## WE-HCI 1365, 7443551730
designator L?, comment 7.30 μH
WE-HCI SMD Flat Wire High Current Inductor, Inductance = 7.30 μH; partNo: 7443551730; Manufacturer: Wurth Elektronik; Inductance: 7.30 μH; ComponentLink1Description: Manufacturer; ComponentLink1URL: http://www.we-online.de; Created by: Baojun Chen; Created Date: Nov.2015; ComponentLink2Description: Datasheet; ComponentLink2URL: http://katalog.we-online.de/pbs/datasheet/7443551730.pdf
footprint WE-HCI 1365
pins: 1, 2

## WE-HCI 1365, 7443551920
designator L?, comment 9.20 μH
WE-HCI SMD Flat Wire High Current Inductor, Inductance = 9.20 μH; partNo: 7443551920; Manufacturer: Wurth Elektronik; Inductance: 9.20 μH; ComponentLink1Description: Manufacturer; ComponentLink1URL: http://www.we-online.de; Created by: Baojun Chen; Created Date: Nov.2015; ComponentLink2Description: Datasheet; ComponentLink2URL: http://katalog.we-online.de/pbs/datasheet/7443551920.pdf
footprint WE-HCI 1365
pins: 1, 2


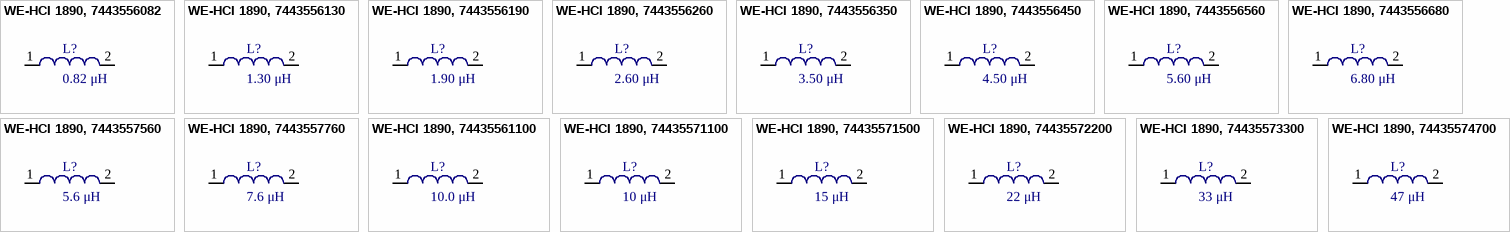
[diagram p6: symbols WE-HCI 1890, 7443556082 to WE-HCI 1890, 74435574700]

## WE-HCI 1890, 7443556082
designator L?, comment 0.82 μH
WE-HCI SMD Flat Wire High Current Inductor, Inductance = 0.82 μH; partNo: 7443556082; Manufacturer: Wurth Elektronik; Inductance: 0.82 μH; ComponentLink1Description: Manufacturer; ComponentLink1URL: http://www.we-online.de; Created by: Baojun Chen; Created Date: Nov.2015; ComponentLink2Description: Datasheet; ComponentLink2URL: http://katalog.we-online.de/pbs/datasheet/7443556082.pdf
footprint WE-HCI 1890_7443556x
pins: 1, 2

## WE-HCI 1890, 7443556130
designator L?, comment 1.30 μH
WE-HCI SMD Flat Wire High Current Inductor, Inductance = 1.30 μH; partNo: 7443556130; Manufacturer: Wurth Elektronik; Inductance: 1.30 μH; ComponentLink1Description: Manufacturer; ComponentLink1URL: http://www.we-online.de; Created by: Baojun Chen; Created Date: Nov.2015; ComponentLink2Description: Datasheet; ComponentLink2URL: http://katalog.we-online.de/pbs/datasheet/7443556130.pdf
footprint WE-HCI 1890_7443556x
pins: 1, 2

## WE-HCI 1890, 7443556190
designator L?, comment 1.90 μH
WE-HCI SMD Flat Wire High Current Inductor, Inductance = 1.90 μH; partNo: 7443556190; Manufacturer: Wurth Elektronik; Inductance: 1.90 μH; ComponentLink1Description: Manufacturer; ComponentLink1URL: http://www.we-online.de; Created by: Baojun Chen; Created Date: Nov.2015; ComponentLink2Description: Datasheet; ComponentLink2URL: http://katalog.we-online.de/pbs/datasheet/7443556190.pdf
footprint WE-HCI 1890_7443556x
pins: 1, 2

## WE-HCI 1890, 7443556260
designator L?, comment 2.60 μH
WE-HCI SMD Flat Wire High Current Inductor, Inductance = 2.60 μH; partNo: 7443556260; Manufacturer: Wurth Elektronik; Inductance: 2.60 μH; ComponentLink1Description: Manufacturer; ComponentLink1URL: http://www.we-online.de; Created by: Baojun Chen; Created Date: Nov.2015; ComponentLink2Description: Datasheet; ComponentLink2URL: http://katalog.we-online.de/pbs/datasheet/7443556260.pdf
footprint WE-HCI 1890_7443556x
pins: 1, 2

## WE-HCI 1890, 7443556350
designator L?, comment 3.50 μH
WE-HCI SMD Flat Wire High Current Inductor, Inductance = 3.50 μH; partNo: 7443556350; Manufacturer: Wurth Elektronik; Inductance: 3.50 μH; ComponentLink1Description: Manufacturer; ComponentLink1URL: http://www.we-online.de; Created by: Baojun Chen; Created Date: Nov.2015; ComponentLink2Description: Datasheet; ComponentLink2URL: http://katalog.we-online.de/pbs/datasheet/7443556350.pdf
footprint WE-HCI 1890_7443556x
pins: 1, 2

## WE-HCI 1890, 7443556450
designator L?, comment 4.50 μH
WE-HCI SMD Flat Wire High Current Inductor, Inductance = 4.50 μH; partNo: 7443556450; Manufacturer: Wurth Elektronik; Inductance: 4.50 μH; ComponentLink1Description: Manufacturer; ComponentLink1URL: http://www.we-online.de; Created by: Baojun Chen; Created Date: Nov.2015; ComponentLink2Description: Datasheet; ComponentLink2URL: http://katalog.we-online.de/pbs/datasheet/7443556450.pdf
footprint WE-HCI 1890_7443556x
pins: 1, 2

## WE-HCI 1890, 7443556560
designator L?, comment 5.60 μH
WE-HCI SMD Flat Wire High Current Inductor, Inductance = 5.60 μH; partNo: 7443556560; Manufacturer: Wurth Elektronik; Inductance: 5.60 μH; ComponentLink1Description: Manufacturer; ComponentLink1URL: http://www.we-online.de; Created by: Baojun Chen; Created Date: Nov.2015; ComponentLink2Description: Datasheet; ComponentLink2URL: http://katalog.we-online.de/pbs/datasheet/7443556560.pdf
footprint WE-HCI 1890_7443556x
pins: 1, 2

## WE-HCI 1890, 7443556680
designator L?, comment 6.80 μH
WE-HCI SMD Flat Wire High Current Inductor, Inductance = 6.80 μH; partNo: 7443556680; Manufacturer: Wurth Elektronik; Inductance: 6.80 μH; ComponentLink1Description: Manufacturer; ComponentLink1URL: http://www.we-online.de; Created by: Baojun Chen; Created Date: Nov.2015; ComponentLink2Description: Datasheet; ComponentLink2URL: http://katalog.we-online.de/pbs/datasheet/7443556680.pdf
footprint WE-HCI 1890_7443556x
pins: 1, 2

## WE-HCI 1890, 7443557560
designator L?, comment 5.6 μH
WE-HCI SMD Flat Wire High Current Inductor, Inductance = 5.6 μH; partNo: 7443557560; Manufacturer: Wurth Elektronik; Inductance: 5.6 μH; ComponentLink1Description: Manufacturer; ComponentLink1URL: http://www.we-online.de; Created by: Baojun Chen; Created Date: Nov.2015; ComponentLink2Description: Datasheet; ComponentLink2URL: http://katalog.we-online.de/pbs/datasheet/7443557560.pdf
footprint WE-HCI 1890_7443557x
pins: 1, 2

## WE-HCI 1890, 7443557760
designator L?, comment 7.6 μH
WE-HCI SMD Flat Wire High Current Inductor, Inductance = 7.6 μH; partNo: 7443557760; Manufacturer: Wurth Elektronik; Inductance: 7.6 μH; ComponentLink1Description: Manufacturer; ComponentLink1URL: http://www.we-online.de; Created by: Baojun Chen; Created Date: Nov.2015; ComponentLink2Description: Datasheet; ComponentLink2URL: http://katalog.we-online.de/pbs/datasheet/7443557760.pdf
footprint WE-HCI 1890_7443557x
pins: 1, 2

## WE-HCI 1890, 74435561100
designator L?, comment 10.0 μH
WE-HCI SMD Flat Wire High Current Inductor, Inductance = 10.0 μH; partNo: 74435561100; Manufacturer: Wurth Elektronik; Inductance: 10.0 μH; ComponentLink1Description: Manufacturer; ComponentLink1URL: http://www.we-online.de; Created by: Baojun Chen; Created Date: Nov.2015; ComponentLink2Description: Datasheet; ComponentLink2URL: http://katalog.we-online.de/pbs/datasheet/74435561100.pdf
footprint WE-HCI 1890_7443556x
pins: 1, 2

## WE-HCI 1890, 74435571100
designator L?, comment 10 μH
WE-HCI SMD Flat Wire High Current Inductor, Inductance = 10 μH; partNo: 74435571100; Manufacturer: Wurth Elektronik; Inductance: 10 μH; ComponentLink1Description: Manufacturer; ComponentLink1URL: http://www.we-online.de; Created by: Baojun Chen; Created Date: Nov.2015; ComponentLink2Description: Datasheet; ComponentLink2URL: http://katalog.we-online.de/pbs/datasheet/74435571100.pdf
footprint WE-HCI 1890_7443557x
pins: 1, 2

## WE-HCI 1890, 74435571500
designator L?, comment 15 μH
WE-HCI SMD Flat Wire High Current Inductor, Inductance = 15 μH; partNo: 74435571500; Manufacturer: Wurth Elektronik; Inductance: 15 μH; ComponentLink1Description: Manufacturer; ComponentLink1URL: http://www.we-online.de; Created by: Baojun Chen; Created Date: Nov.2015; ComponentLink2Description: Datasheet; ComponentLink2URL: http://katalog.we-online.de/pbs/datasheet/74435571500.pdf
footprint WE-HCI 1890_7443557x
pins: 1, 2

## WE-HCI 1890, 74435572200
designator L?, comment 22 μH
WE-HCI SMD Flat Wire High Current Inductor, Inductance = 22 μH; partNo: 74435572200; Manufacturer: Wurth Elektronik; Inductance: 22 μH; ComponentLink1Description: Manufacturer; ComponentLink1URL: http://www.we-online.de; Created by: Baojun Chen; Created Date: Nov.2015; ComponentLink2Description: Datasheet; ComponentLink2URL: http://katalog.we-online.de/pbs/datasheet/74435572200.pdf
footprint WE-HCI 1890_7443557x
pins: 1, 2

## WE-HCI 1890, 74435573300
designator L?, comment 33 μH
WE-HCI SMD Flat Wire High Current Inductor, Inductance = 33 μH; partNo: 74435573300; Manufacturer: Wurth Elektronik; Inductance: 33 μH; ComponentLink1Description: Manufacturer; ComponentLink1URL: http://www.we-online.de; Created by: Baojun Chen; Created Date: Nov.2015; ComponentLink2Description: Datasheet; ComponentLink2URL: http://katalog.we-online.de/pbs/datasheet/74435573300.pdf
footprint WE-HCI 1890_7443557x
pins: 1, 2

## WE-HCI 1890, 74435574700
designator L?, comment 47 μH
WE-HCI SMD Flat Wire High Current Inductor, Inductance = 47 μH; partNo: 74435574700; Manufacturer: Wurth Elektronik; Inductance: 47 μH; ComponentLink1Description: Manufacturer; ComponentLink1URL: http://www.we-online.de; Created by: Baojun Chen; Created Date: Nov.2015; ComponentLink2Description: Datasheet; ComponentLink2URL: http://katalog.we-online.de/pbs/datasheet/74435574700.pdf
footprint WE-HCI 1890_7443557x
pins: 1, 2


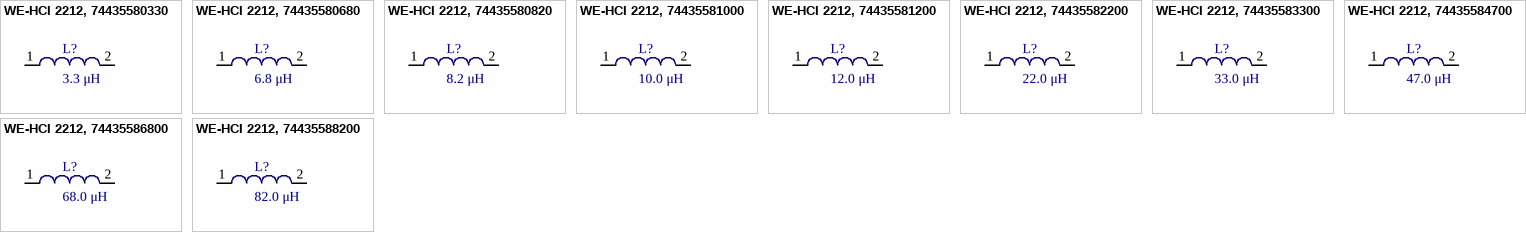
[diagram p7: symbols WE-HCI 2212, 74435580330 to WE-HCI 2212, 74435588200]

## WE-HCI 2212, 74435580330
designator L?, comment 3.3 μH
WE-HCI SMD Flat Wire High Current Inductor, Inductance = 3.3 μH; partNo: 74435580330; Manufacturer: Wurth Elektronik; Inductance: 3.3 μH; ComponentLink1Description: Manufacturer; ComponentLink1URL: http://www.we-online.de; Created by: Baojun Chen; Created Date: Nov.2015; ComponentLink2Description: Datasheet; ComponentLink2URL: http://katalog.we-online.de/pbs/datasheet/74435580330.pdf
footprint WE-HCI 2212
pins: 1, 2

## WE-HCI 2212, 74435580680
designator L?, comment 6.8 μH
WE-HCI SMD Flat Wire High Current Inductor, Inductance = 6.8 μH; partNo: 74435580680; Manufacturer: Wurth Elektronik; Inductance: 6.8 μH; ComponentLink1Description: Manufacturer; ComponentLink1URL: http://www.we-online.de; Created by: Baojun Chen; Created Date: Nov.2015; ComponentLink2Description: Datasheet; ComponentLink2URL: http://katalog.we-online.de/pbs/datasheet/74435580680.pdf
footprint WE-HCI 2212
pins: 1, 2

## WE-HCI 2212, 74435580820
designator L?, comment 8.2 μH
WE-HCI SMD Flat Wire High Current Inductor, Inductance = 8.2 μH; partNo: 74435580820; Manufacturer: Wurth Elektronik; Inductance: 8.2 μH; ComponentLink1Description: Manufacturer; ComponentLink1URL: http://www.we-online.de; Created by: Baojun Chen; Created Date: Nov.2015; ComponentLink2Description: Datasheet; ComponentLink2URL: http://katalog.we-online.de/pbs/datasheet/74435580820.pdf
footprint WE-HCI 2212
pins: 1, 2

## WE-HCI 2212, 74435581000
designator L?, comment 10.0 μH
WE-HCI SMD Flat Wire High Current Inductor, Inductance = 10.0 μH; partNo: 74435581000; Manufacturer: Wurth Elektronik; Inductance: 10.0 μH; ComponentLink1Description: Manufacturer; ComponentLink1URL: http://www.we-online.de; Created by: Baojun Chen; Created Date: Nov.2015; ComponentLink2Description: Datasheet; ComponentLink2URL: http://katalog.we-online.de/pbs/datasheet/74435581000.pdf
footprint WE-HCI 2212
pins: 1, 2

## WE-HCI 2212, 74435581200
designator L?, comment 12.0 μH
WE-HCI SMD Flat Wire High Current Inductor, Inductance = 12.0 μH; partNo: 74435581200; Manufacturer: Wurth Elektronik; Inductance: 12.0 μH; ComponentLink1Description: Manufacturer; ComponentLink1URL: http://www.we-online.de; Created by: Baojun Chen; Created Date: Nov.2015; ComponentLink2Description: Datasheet; ComponentLink2URL: http://katalog.we-online.de/pbs/datasheet/74435581200.pdf
footprint WE-HCI 2212
pins: 1, 2

## WE-HCI 2212, 74435582200
designator L?, comment 22.0 μH
WE-HCI SMD Flat Wire High Current Inductor, Inductance = 22.0 μH; partNo: 74435582200; Manufacturer: Wurth Elektronik; Inductance: 22.0 μH; ComponentLink1Description: Manufacturer; ComponentLink1URL: http://www.we-online.de; Created by: Baojun Chen; Created Date: Nov.2015; ComponentLink2Description: Datasheet; ComponentLink2URL: http://katalog.we-online.de/pbs/datasheet/74435582200.pdf
footprint WE-HCI 2212
pins: 1, 2

## WE-HCI 2212, 74435583300
designator L?, comment 33.0 μH
WE-HCI SMD Flat Wire High Current Inductor, Inductance = 33.0 μH; partNo: 74435583300; Manufacturer: Wurth Elektronik; Inductance: 33.0 μH; ComponentLink1Description: Manufacturer; ComponentLink1URL: http://www.we-online.de; Created by: Baojun Chen; Created Date: Nov.2015; ComponentLink2Description: Datasheet; ComponentLink2URL: http://katalog.we-online.de/pbs/datasheet/74435583300.pdf
footprint WE-HCI 2212
pins: 1, 2

## WE-HCI 2212, 74435584700
designator L?, comment 47.0 μH
WE-HCI SMD Flat Wire High Current Inductor, Inductance = 47.0 μH; partNo: 74435584700; Manufacturer: Wurth Elektronik; Inductance: 47.0 μH; ComponentLink1Description: Manufacturer; ComponentLink1URL: http://www.we-online.de; Created by: Baojun Chen; Created Date: Nov.2015; ComponentLink2Description: Datasheet; ComponentLink2URL: http://katalog.we-online.de/pbs/datasheet/74435584700.pdf
footprint WE-HCI 2212
pins: 1, 2

## WE-HCI 2212, 74435586800
designator L?, comment 68.0 μH
WE-HCI SMD Flat Wire High Current Inductor, Inductance = 68.0 μH; partNo: 74435586800; Manufacturer: Wurth Elektronik; Inductance: 68.0 μH; ComponentLink1Description: Manufacturer; ComponentLink1URL: http://www.we-online.de; Created by: Baojun Chen; Created Date: Nov.2015; ComponentLink2Description: Datasheet; ComponentLink2URL: http://katalog.we-online.de/pbs/datasheet/74435586800.pdf
footprint WE-HCI 2212
pins: 1, 2

## WE-HCI 2212, 74435588200
designator L?, comment 82.0 μH
WE-HCI SMD Flat Wire High Current Inductor, Inductance = 82.0 μH; partNo: 74435588200; Manufacturer: Wurth Elektronik; Inductance: 82.0 μH; ComponentLink1Description: Manufacturer; ComponentLink1URL: http://www.we-online.de; Created by: Baojun Chen; Created Date: Nov.2015; ComponentLink2Description: Datasheet; ComponentLink2URL: http://katalog.we-online.de/pbs/datasheet/74435588200.pdf
footprint WE-HCI 2212
pins: 1, 2


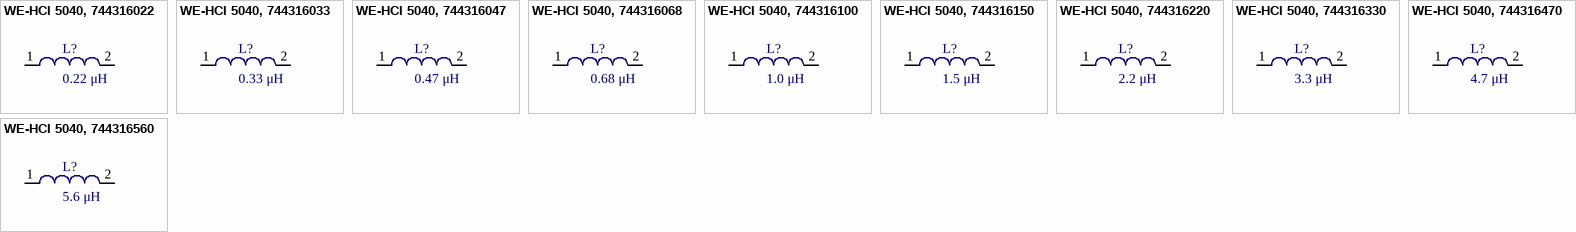
[diagram p8: symbols WE-HCI 5040, 744316022 to WE-HCI 5040, 744316560]

## WE-HCI 5040, 744316022
designator L?, comment 0.22 μH
WE-HCI SMD Flat Wire High Current Inductor, Inductance = 0.22 μH; partNo: 744316022; Manufacturer: Wurth Elektronik; Inductance: 0.22 μH; ComponentLink1Description: Manufacturer; ComponentLink1URL: http://www.we-online.de; Created by: Baojun Chen; Created Date: Nov.2015; ComponentLink2Description: Datasheet; ComponentLink2URL: http://katalog.we-online.de/pbs/datasheet/744316022.pdf
footprint WE-HCI 5040
pins: 1, 2

## WE-HCI 5040, 744316033
designator L?, comment 0.33 μH
WE-HCI SMD Flat Wire High Current Inductor, Inductance = 0.33 μH; partNo: 744316033; Manufacturer: Wurth Elektronik; Inductance: 0.33 μH; ComponentLink1Description: Manufacturer; ComponentLink1URL: http://www.we-online.de; Created by: Baojun Chen; Created Date: Nov.2015; ComponentLink2Description: Datasheet; ComponentLink2URL: http://katalog.we-online.de/pbs/datasheet/744316033.pdf
footprint WE-HCI 5040
pins: 1, 2

## WE-HCI 5040, 744316047
designator L?, comment 0.47 μH
WE-HCI SMD Flat Wire High Current Inductor, Inductance = 0.47 μH; partNo: 744316047; Manufacturer: Wurth Elektronik; Inductance: 0.47 μH; ComponentLink1Description: Manufacturer; ComponentLink1URL: http://www.we-online.de; Created by: Baojun Chen; Created Date: Nov.2015; ComponentLink2Description: Datasheet; ComponentLink2URL: http://katalog.we-online.de/pbs/datasheet/744316047.pdf
footprint WE-HCI 5040
pins: 1, 2

## WE-HCI 5040, 744316068
designator L?, comment 0.68 μH
WE-HCI SMD Flat Wire High Current Inductor, Inductance = 0.68 μH; partNo: 744316068; Manufacturer: Wurth Elektronik; Inductance: 0.68 μH; ComponentLink1Description: Manufacturer; ComponentLink1URL: http://www.we-online.de; Created by: Baojun Chen; Created Date: Nov.2015; ComponentLink2Description: Datasheet; ComponentLink2URL: http://katalog.we-online.de/pbs/datasheet/744316068.pdf
footprint WE-HCI 5040
pins: 1, 2

## WE-HCI 5040, 744316100
designator L?, comment 1.0 μH
WE-HCI SMD Flat Wire High Current Inductor, Inductance = 1.0 μH; partNo: 744316100; Manufacturer: Wurth Elektronik; Inductance: 1.0 μH; ComponentLink1Description: Manufacturer; ComponentLink1URL: http://www.we-online.de; Created by: Baojun Chen; Created Date: Nov.2015; ComponentLink2Description: Datasheet; ComponentLink2URL: http://katalog.we-online.de/pbs/datasheet/744316100.pdf
footprint WE-HCI 5040
pins: 1, 2

## WE-HCI 5040, 744316150
designator L?, comment 1.5 μH
WE-HCI SMD Flat Wire High Current Inductor, Inductance = 1.5 μH; partNo: 744316150; Manufacturer: Wurth Elektronik; Inductance: 1.5 μH; ComponentLink1Description: Manufacturer; ComponentLink1URL: http://www.we-online.de; Created by: Baojun Chen; Created Date: Nov.2015; ComponentLink2Description: Datasheet; ComponentLink2URL: http://katalog.we-online.de/pbs/datasheet/744316150.pdf
footprint WE-HCI 5040
pins: 1, 2

## WE-HCI 5040, 744316220
designator L?, comment 2.2 μH
WE-HCI SMD Flat Wire High Current Inductor, Inductance = 2.2 μH; partNo: 744316220; Manufacturer: Wurth Elektronik; Inductance: 2.2 μH; ComponentLink1Description: Manufacturer; ComponentLink1URL: http://www.we-online.de; Created by: Baojun Chen; Created Date: Nov.2015; ComponentLink2Description: Datasheet; ComponentLink2URL: http://katalog.we-online.de/pbs/datasheet/744316220.pdf
footprint WE-HCI 5040
pins: 1, 2

## WE-HCI 5040, 744316330
designator L?, comment 3.3 μH
WE-HCI SMD Flat Wire High Current Inductor, Inductance = 3.3 μH; partNo: 744316330; Manufacturer: Wurth Elektronik; Inductance: 3.3 μH; ComponentLink1Description: Manufacturer; ComponentLink1URL: http://www.we-online.de; Created by: Baojun Chen; Created Date: Nov.2015; ComponentLink2Description: Datasheet; ComponentLink2URL: http://katalog.we-online.de/pbs/datasheet/744316330.pdf
footprint WE-HCI 5040
pins: 1, 2

## WE-HCI 5040, 744316470
designator L?, comment 4.7 μH
WE-HCI SMD Flat Wire High Current Inductor, Inductance = 4.7 μH; partNo: 744316470; Manufacturer: Wurth Elektronik; Inductance: 4.7 μH; ComponentLink1Description: Manufacturer; ComponentLink1URL: http://www.we-online.de; Created by: Baojun Chen; Created Date: Nov.2015; ComponentLink2Description: Datasheet; ComponentLink2URL: http://katalog.we-online.de/pbs/datasheet/744316470.pdf
footprint WE-HCI 5040
pins: 1, 2

## WE-HCI 5040, 744316560
designator L?, comment 5.6 μH
WE-HCI SMD Flat Wire High Current Inductor, Inductance = 5.6 μH; partNo: 744316560; Manufacturer: Wurth Elektronik; Inductance: 5.6 μH; ComponentLink1Description: Manufacturer; ComponentLink1URL: http://www.we-online.de; Created by: Baojun Chen; Created Date: Nov.2015; ComponentLink2Description: Datasheet; ComponentLink2URL: http://katalog.we-online.de/pbs/datasheet/744316560.pdf
footprint WE-HCI 5040
pins: 1, 2


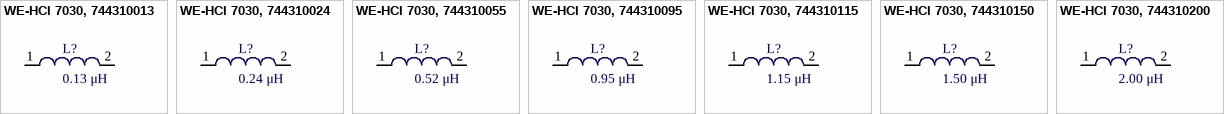
[diagram p9: symbols WE-HCI 7030, 744310013 to WE-HCI 7030, 744310200]

## WE-HCI 7030, 744310013
designator L?, comment 0.13 μH
WE-HCI SMD Flat Wire High Current Inductor, Inductance = 0.13 μH; partNo: 744310013; Manufacturer: Wurth Elektronik; Inductance: 0.13 μH; ComponentLink1Description: Manufacturer; ComponentLink1URL: http://www.we-online.de; Created by: Baojun Chen; Created Date: Nov.2015; ComponentLink2Description: Datasheet; ComponentLink2URL: http://katalog.we-online.de/pbs/datasheet/744310013.pdf
footprint WE-HCI 7030
pins: 1, 2

## WE-HCI 7030, 744310024
designator L?, comment 0.24 μH
WE-HCI SMD Flat Wire High Current Inductor, Inductance = 0.24 μH; partNo: 744310024; Manufacturer: Wurth Elektronik; Inductance: 0.24 μH; ComponentLink1Description: Manufacturer; ComponentLink1URL: http://www.we-online.de; Created by: Baojun Chen; Created Date: Nov.2015; ComponentLink2Description: Datasheet; ComponentLink2URL: http://katalog.we-online.de/pbs/datasheet/744310024.pdf
footprint WE-HCI 7030
pins: 1, 2

## WE-HCI 7030, 744310055
designator L?, comment 0.52 μH
WE-HCI SMD Flat Wire High Current Inductor, Inductance = 0.52 μH; partNo: 744310055; Manufacturer: Wurth Elektronik; Inductance: 0.52 μH; ComponentLink1Description: Manufacturer; ComponentLink1URL: http://www.we-online.de; Created by: Baojun Chen; Created Date: Nov.2015; ComponentLink2Description: Datasheet; ComponentLink2URL: http://katalog.we-online.de/pbs/datasheet/744310055.pdf
footprint WE-HCI 7030
pins: 1, 2